# EAGLE library part VQC10 (library VQC10)
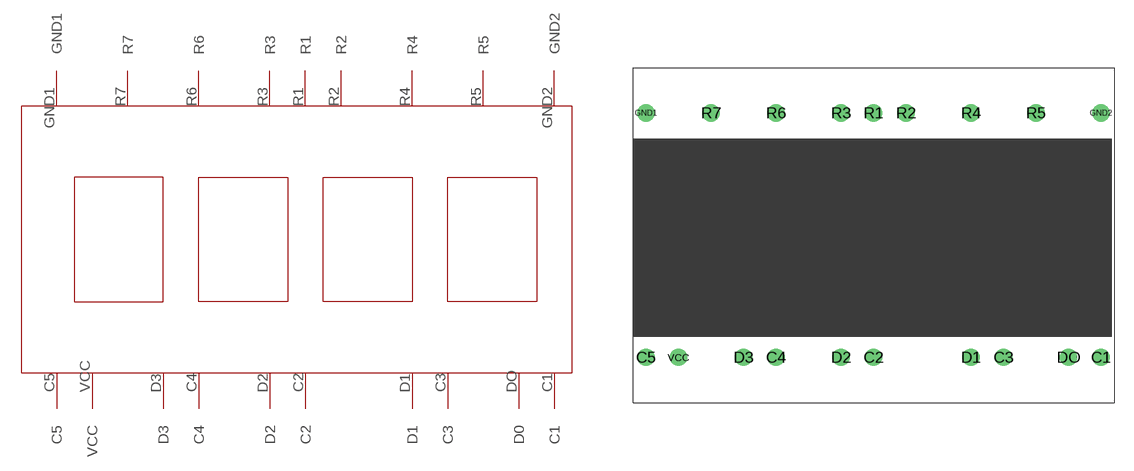
[diagram p0: symbol with the pads of 30DIP; footprint 30DIP]

Designator prefix -

## VQC10 (VQC10: 5x7Matrix)  [30DIP]
C1  C1
C2  C2
C3  C3
C4  C4
C5  C5
D1  D1
D2  D2
D3  D3
DO  D0
GND1  GND1
GND2  GND2
R1  R1
R2  R2
R3  R3
R4  R4
R5  R5
R6  R6
R7  R7
VCC  VCC

## Footprint 30DIP (pad centres in mm)
drill 0.8: C1 36,3.5; C2 18.5,3.5; C3 28.5,3.5; C4 11,3.5; C5 1,3.5; D1 26,3.5; D2 16,3.5; D3 8.5,3.5; DO 33.5,3.5; GND1 1,22.3; GND2 36,22.3; R1 18.5,22.3; R2 21,22.3; R3 16,22.3; R4 26,22.3; R5 31,22.3; R6 11,22.3; R7 6,22.3; VCC 3.5,3.5